# Altium footprint library Chips.PcbLib: 57 footprints (part 3 of 4)
Each footprint in its own frame and in the unit in brackets; x right, y up, seen from the top. Pads: shape width x height; smd on the part's side, far side on the other; paste and mask are expansions set on the pad; w line width, h text height; cw(c..) or ccw(c..) is an arc to the next point about the centre after c.
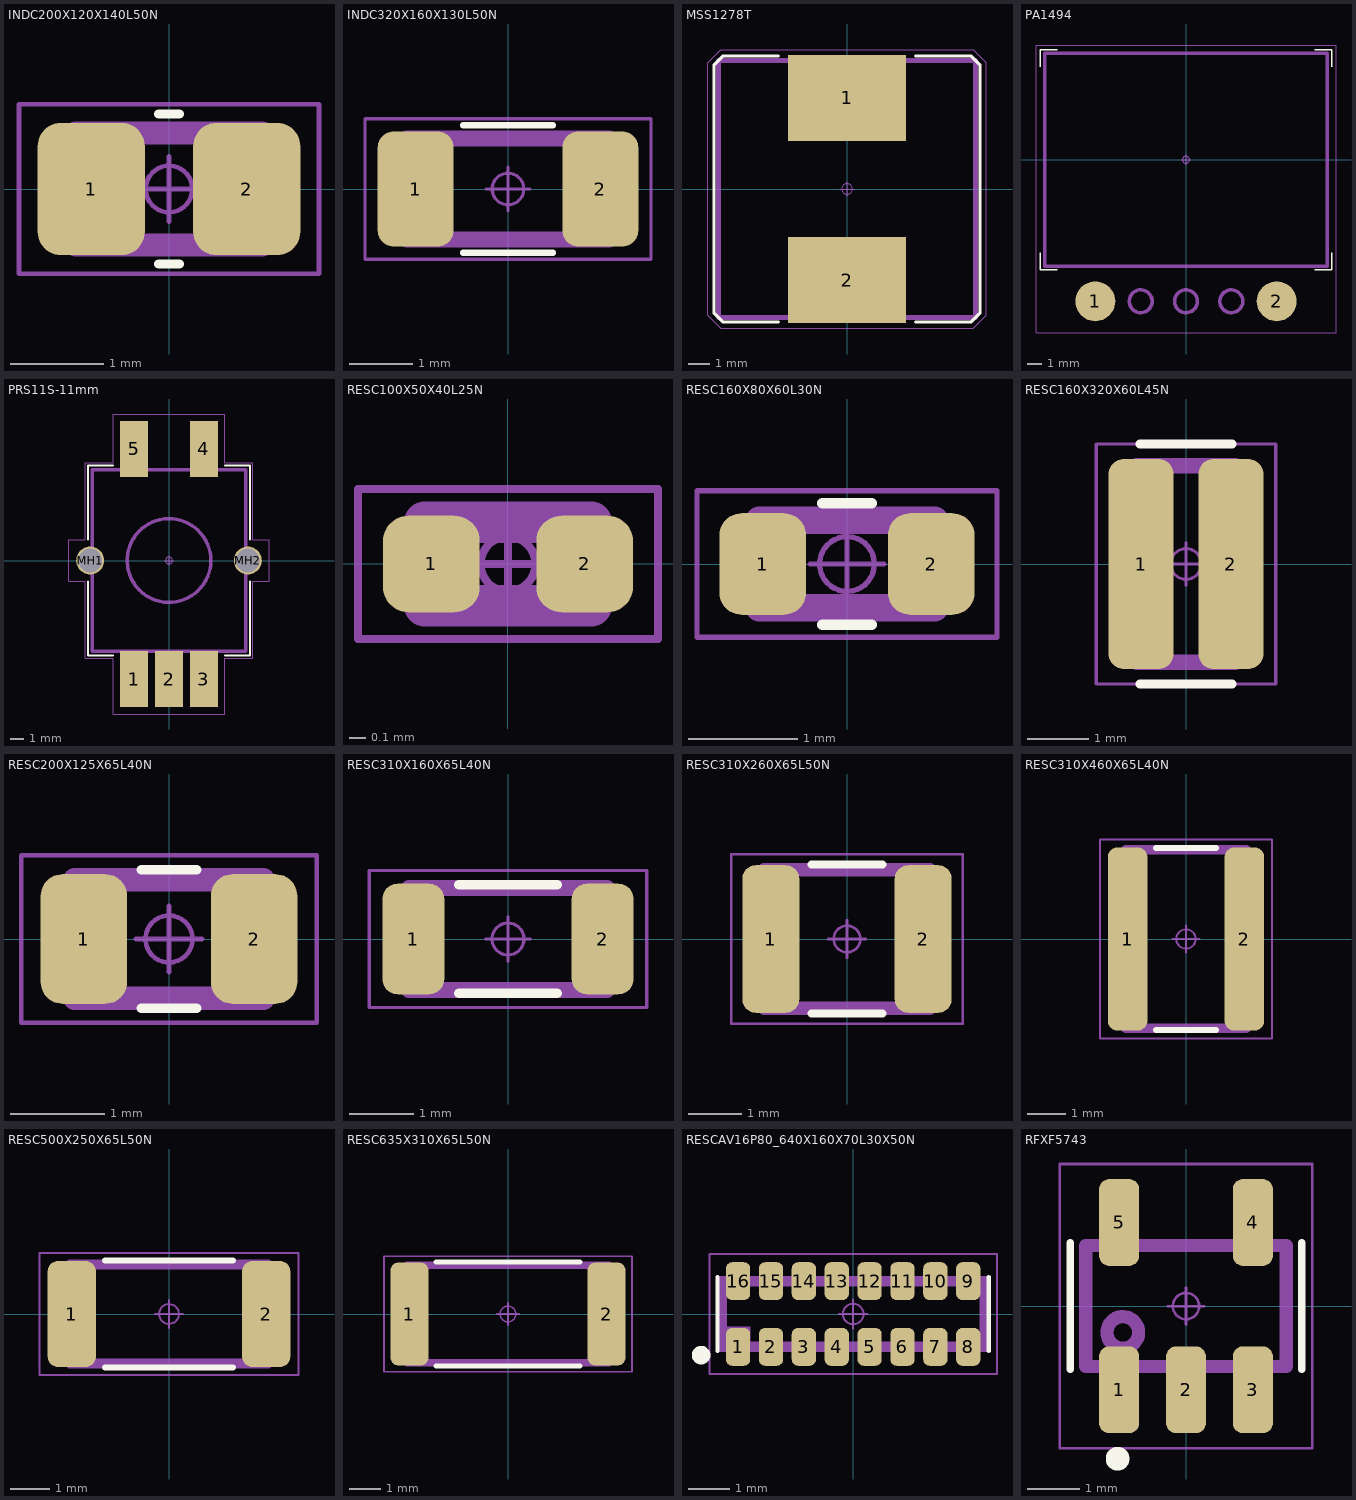
[diagram p2: the footprints below, top view; thin cyan lines are the x and y axes]

## INDC200X120X140L50N [mm] "Inductor, Chip; 2.00 mm L X 1.20 mm W X 1.40 mm H body"
height 1.4
pads (2):
  rrect43% 1.15x1.42 smd: 1(-0.835,0) 2(0.835,0)
Top Overlay:
  lines w0.1: -0.11,-0.805 0.11,-0.805 ; -0.11,0.805 0.11,0.805
Top Assembly:
  lines w0.25: -1,-0.6 -1,0.6 1,0.6 1,-0.6 -1,-0.6
  text ".Designator" at -1.8,1.1 h1.5
Top Courtyard:
  circle w0.05: c0,0 r0.25
  lines w0.05: -0.35,0 0.35,0 ; 0,-0.35 0,0.35 ; -1.61,-0.91 -1.61,0.91 1.61,0.91 1.61,-0.91 -1.61,-0.91
3D body "INDC200X120X140L50.STEP": height 1.4, standoff 0, extent -1,-0.6 1,0.6

## INDC320X160X130L50N [mm] "Inductor, Chip; 3.20 mm L X 1.60 mm W X 1.30 mm H body"
height 1.3
pads (2):
  rrect42% 1.2x1.82 smd: 1(-1.46,0) 2(1.46,0)
Top Overlay:
  lines w0.1: -0.71,-1.005 0.71,-1.005 ; -0.71,1.005 0.71,1.005
Top Assembly:
  lines w0.25: -1.6,-0.8 1.6,-0.8 1.6,0.8 -1.6,0.8 -1.6,-0.8
  text ".Designator" at -1.2,-0.4 h1.5
Top Courtyard:
  circle w0.05: c0,0 r0.25
  lines w0.05: -0.35,0 0.35,0 ; 0,-0.35 0,0.35 ; -2.26,-1.11 2.26,-1.11 2.26,1.11 -2.26,1.11 -2.26,-1.11
3D body "INDC320X160X130L50.STEP": height 1.3, standoff 0, extent -1.6,-0.8 1.6,0.8

## MSS1278T [mm] "Coilcraft MSS1278T Series"
height 7.8
pads (2):
  rect 5.5x4 smd: 1(0,4.25) 2(0,-4.25)
Top Overlay:
  lines w0.15: -3.2,-6.2 -5.8,-6.2 -6.2,-5.8 -6.2,5.8 -5.8,6.2 -3.2,6.2 ; 3.2,-6.2 5.8,-6.2 6.2,-5.8 6.2,5.8 5.8,6.2 3.2,6.2
Top Assembly:
  lines w0.25: -6,-6 6,-6 6,6 -6,6 -6,-6
  text ".Designator" at -3.3,-0.3 h1.5
Top Courtyard:
  circle w0.05: c0,0 r0.25
  lines w0.05: -0.35,0 0.35,0 ; 0,-0.35 0,0.35 ; -6.5,-5.9 -6.5,5.9 -5.9,6.5 5.9,6.5 6.5,5.9 6.5,-5.9 5.9,-6.5 -5.9,-6.5 -6.5,-5.9
3D body "MSS1278T.SLDPRT": height 7.8, standoff 0, extent -6,-6 6,6

## PA1494 [mm] "Pulse Planar inductor"
height 7.4
pads (2):
  round 2.8 smd: 1(-6.35,-9.91) 2(6.35,-9.91)
Top Overlay:
  lines w0.1: -10.2,-6.5 -10.2,-7.7 -9,-7.7 ; -10.2,6.5 -10.2,7.7 -9,7.7 ; 9,-7.7 10.2,-7.7 10.2,-6.5 ; 9,7.7 10.2,7.7 10.2,6.5
Top Assembly:
  circle w0.25: c6.35,-9.91 r0.8
  circle w0.25: c3.17,-9.91 r0.8
  circle w0.25: c0,-9.91 r0.8
  circle w0.25: c-3.17,-9.91 r0.8
  circle w0.25: c-6.35,-9.91 r0.8
  lines w0.25: -9.9,-7.45 9.9,-7.45 9.9,7.45 -9.9,7.45 -9.9,-7.45
  text ".Designator" at -2.8,-0.3 h1.5
Top Courtyard:
  circle w0.05: c0,0 r0.25
  lines w0.05: -0.35,0 0.35,0 ; 0,-0.35 0,0.35 ; -10.5,-12.1 -10.5,8 10.5,8 10.5,-12.1 -10.5,-12.1
3D body "PA1494.STEP": height 7.37, standoff 0, extent -9.905,-12.09 9.905,7.47

## PRS11S-11mm [mm] "Bourns 11 mm SMD Potentiometer with Mounting Holes"
height 20
pads (7):
  rect 2x4 smd: 1(-2.5,-8.5) 2(0,-8.5) 3(2.5,-8.5) 4(2.5,8) 5(-2.5,8)
  round 2 hole 1.7: MH1(-5.65,0) MH2(5.65,0)
Top Overlay:
  lines w0.15: -5.8,-1.5 -5.8,-6.8 -4,-6.8 ; -5.8,1.5 -5.8,6.8 -4,6.8 ; 4,-6.8 5.8,-6.8 5.8,-1.5 ; 4,6.8 5.8,6.8 5.8,1.5
Top Assembly:
  circle w0.25: c0,0 r3
  lines w0.25: -5.5,-6.5 -5.5,6.5 5.5,6.5 5.5,-6.5 -5.5,-6.5
  text ".Designator" at -2.4,-0.6 h1.5
Top Courtyard:
  circle w0.05: c0,0 r0.25
  lines w0.05: -0.35,0 0.35,0 ; 0,-0.35 0,0.35 ; -7.2,-1.5 -7.2,1.5 -6,1.5 -6,7 -4,7 -4,10.5 4,10.5 4,7 6,7 6,1.5 7.2,1.5 7.2,-1.5 6,-1.5 6,-7 4,-7 4,-11 -4,-11 -4,-7 -6,-7 -6,-1.5 -7.2,-1.5
3D body "PRS11S-11mm.STEP": height 20, standoff -1.4, extent -5.85,-9.5 5.85,9

## RESC100X50X40L25N [mm] "Resistor, Chip; 1.00 mm L X 0.50 mm W X 0.40 mm H body"
height 0.4
pads (2):
  rrect52% 0.58x0.58 smd: 1(-0.46,0) 2(0.46,0)
Top Assembly:
  lines w0.25: -0.5,-0.25 0.5,-0.25 0.5,0.25 -0.5,0.25 -0.5,-0.25
  text ".Designator" at -2.2,0.8 h1.5
Top Courtyard:
  circle w0.05: c0,0 r0.165
  lines w0.05: -0.22,0 0.22,0 ; 0,-0.22 0,0.22 ; -0.9,-0.45 0.9,-0.45 0.9,0.45 -0.9,0.45 -0.9,-0.45
3D body "RESC100X50X40L25.STEP": height 0.4, standoff 0, extent -0.5,-0.25 0.5,0.25

## RESC160X80X60L30N [mm] "Resistor, Chip; 1.60 mm L X 0.80 mm W X 0.60 mm H body"
height 0.6
pads (2):
  rrect51% 0.79x0.93 smd: 1(-0.77,0) 2(0.77,0)
Top Overlay:
  lines w0.1: -0.225,-0.555 0.225,-0.555 ; -0.225,0.555 0.225,0.555
Top Assembly:
  lines w0.25: -0.8,-0.4 -0.8,0.4 0.8,0.4 0.8,-0.4 -0.8,-0.4
  text ".Designator" at -2.1,0.9 h1.5
Top Courtyard:
  circle w0.05: c0,0 r0.25
  lines w0.05: -0.335,0 0.335,0 ; 0,-0.335 0,0.335 ; -1.37,-0.67 -1.37,0.67 1.37,0.67 1.37,-0.67 -1.37,-0.67
3D body "RESC160X80X60L30.STEP": height 0.6, standoff 0, extent -0.8,-0.4 0.8,0.4

## RESC160X320X60L45N [mm] "Resistor, Chip; 1.60 mm L X 3.20 mm W X 0.60 mm H body"
height 0.6
pads (2):
  rrect47% 1.06x3.42 smd: 1(-0.73,0) 2(0.73,0)
Top Overlay:
  lines w0.15: -0.75,-1.95 0.75,-1.95 ; -0.75,1.95 0.75,1.95
Top Assembly:
  lines w0.25: -0.8,-1.6 0.8,-1.6 0.8,1.6 -0.8,1.6 -0.8,-1.6
  text ".Designator" at 0.525,-1.4 h1.5
Top Courtyard:
  circle w0.05: c0,0 r0.25
  lines w0.05: -0.35,0 0.35,0 ; 0,-0.35 0,0.35 ; -1.46,-1.95 1.46,-1.95 1.46,1.95 -1.46,1.95 -1.46,-1.95
3D body "RESC160X320X60L45.STEP": height 0.6, standoff 0, extent -0.8,-1.6 0.8,1.6

## RESC200X125X65L40N [mm] "Resistor, Chip; 2.00 mm L X 1.25 mm W X 0.65 mm H body"
height 0.65
pads (2):
  rrect50% 0.92x1.38 smd: 1(-0.905,0) 2(0.905,0)
Top Overlay:
  lines w0.1: -0.295,-0.735 0.295,-0.735 ; -0.295,0.735 0.295,0.735
Top Assembly:
  lines w0.25: -1,-0.63 1,-0.63 1,0.63 -1,0.63 -1,-0.63
  text ".Designator" at -2,1.2 h1.5
Top Courtyard:
  circle w0.05: c0,0 r0.25
  lines w0.05: -0.35,0 0.35,0 ; 0,-0.35 0,0.35 ; -1.57,-0.89 1.57,-0.89 1.57,0.89 -1.57,0.89 -1.57,-0.89
3D body "RESC200X125X65L40.STEP": height 0.65, standoff 0, extent -1,-0.625 1,0.625

## RESC310X160X65L40N [mm] "Resistor, Chip; 3.10 mm L X 1.60 mm W X 0.65 mm H body"
height 0.65
pads (2):
  rrect49% 0.97x1.73 smd: 1(-1.48,0) 2(1.48,0)
Top Overlay:
  lines w0.15: -0.77,-0.85 0.77,-0.85 ; -0.77,0.85 0.77,0.85
Top Assembly:
  lines w0.25: -1.55,-0.8 1.55,-0.8 1.55,0.8 -1.55,0.8 -1.55,-0.8
  text ".Designator" at -1.3,-0.4 h1.5
Top Courtyard:
  circle w0.05: c0,0 r0.25
  lines w0.05: -0.35,0 0.35,0 ; 0,-0.35 0,0.35 ; -2.17,-1.07 2.17,-1.07 2.17,1.07 -2.17,1.07 -2.17,-1.07
3D body "RESC310X160X65L40.STEP": height 0.65, standoff 0, extent -1.55,-0.8 1.55,0.8

## RESC310X260X65L50N [mm] "Resistor, Chip; 3.10 mm L X 2.60 mm W X 0.65 mm H body"
height 0.65
pads (2):
  rrect47% 1.07x2.77 smd: 1(-1.43,0) 2(1.43,0)
Top Overlay:
  lines w0.15: -0.67,-1.4 0.67,-1.4 ; -0.67,1.4 0.67,1.4
Top Assembly:
  lines w0.25: -1.55,-1.3 1.55,-1.3 1.55,1.3 -1.55,1.3 -1.55,-1.3
  text ".Designator" at -1.1,-0.4 h1.5
Top Courtyard:
  circle w0.05: c0,0 r0.25
  lines w0.05: -0.35,0 0.35,0 ; 0,-0.35 0,0.35 ; -2.17,-1.59 2.17,-1.59 2.17,1.59 -2.17,1.59 -2.17,-1.59
3D body "RESC310X260X65L50.STEP": height 0.65, standoff 0, extent -1.55,-1.3 1.55,1.3

## RESC310X460X65L40N [mm] "Resistor, Chip; 3.10 mm L X 4.60 mm W X 0.65 mm H body"
height 0.65
pads (2):
  rrect49% 1.02x4.73 smd: 1(-1.505,0) 2(1.505,0)
Top Overlay:
  lines w0.15: -0.77,-2.35 0.77,-2.35 ; -0.77,2.35 0.77,2.35
Top Assembly:
  lines w0.25: -1.55,-2.3 1.55,-2.3 1.55,2.3 -1.55,2.3 -1.55,-2.3
  text ".Designator" at -1.3,-0.3 h1.5
Top Courtyard:
  circle w0.05: c0,0 r0.25
  lines w0.05: -0.35,0 0.35,0 ; 0,-0.35 0,0.35 ; -2.22,-2.57 2.22,-2.57 2.22,2.57 -2.22,2.57 -2.22,-2.57
3D body "RESC310X460X65L40.STEP": height 0.65, standoff 0, extent -1.55,-2.3 1.55,2.3

## RESC500X250X65L50N [mm] "Resistor, Chip; 5.00 mm L X 2.50 mm W X 0.65 mm H body"
height 0.65
pads (2):
  rrect41% 1.22x2.67 smd: 1(-2.455,0) 2(2.455,0)
Top Overlay:
  lines w0.15: -1.62,-1.35 1.62,-1.35 ; -1.62,1.35 1.62,1.35
Top Assembly:
  lines w0.25: -2.5,-1.25 -2.5,1.25 2.5,1.25 2.5,-1.25 -2.5,-1.25
  text ".Designator" at -2.2,-0.3 h1.5
Top Courtyard:
  circle w0.05: c0,0 r0.25
  lines w0.05: -0.35,0 0.35,0 ; 0,-0.35 0,0.35 ; -3.27,-1.54 -3.27,1.54 3.27,1.54 3.27,-1.54 -3.27,-1.54
3D body "RESC500X250X65L50.STEP": height 0.65, standoff 0, extent -2.5,-1.25 2.5,1.25

## RESC635X310X65L50N [mm] "Resistor, Chip; 6.35 mm L X 3.10 mm W X 0.65 mm H body"
height 0.65
pads (2):
  rrect41% 1.22x3.27 smd: 1(-3.13,0) 2(3.13,0)
Top Overlay:
  lines w0.15: -2.295,-1.65 2.295,-1.65 ; -2.295,1.65 2.295,1.65
Top Assembly:
  lines w0.25: -3.2,-1.55 3.2,-1.55 3.2,1.55 -3.2,1.55 -3.2,-1.55
  text ".Designator" at -2.4,-0.3 h1.5
Top Courtyard:
  circle w0.05: c0,0 r0.25
  lines w0.05: -0.35,0 0.35,0 ; 0,-0.35 0,0.35 ; -3.94,-1.84 3.94,-1.84 3.94,1.84 -3.94,1.84 -3.94,-1.84
3D body "RESC635X310X65L50.STEP": height 0.65, standoff 0, extent -3.175,-1.55 3.175,1.55

## RESCAV16P80_640X160X70L30X50N [mm] "Chip Array, 2 Side Concave, 0.80 mm pitch; 16 pin, 6.40 mm L X 1.60 mm W X 0.70 mm H body"
height 0.7
pads (16):
  rrect51% 0.59x0.92 smd: 1(-2.8,-0.8) 2(-2,-0.8) 3(-1.2,-0.8) 4(-0.4,-0.8) 5(0.4,-0.8) 6(1.2,-0.8) 7(2,-0.8) 8(2.8,-0.8) 9(2.8,0.8) 10(2,0.8) 11(1.2,0.8) 12(0.4,0.8) 13(-0.4,0.8) 14(-1.2,0.8) 15(-2,0.8) 16(-2.8,0.8)
Top Overlay:
  circle w0.25: c-3.7,-1 r0.1
  lines w0.1: -3.3,-0.9 -3.3,0.9 ; 3.3,-0.9 3.3,0.9
Top Assembly:
  rectangle: -3.2,-0.8 -2.5,-0.3
  lines w0.25: -3.2,-0.8 -3.2,0.8 3.2,0.8 3.2,-0.8 -3.2,-0.8
  text ".Designator" at -2.2,-0.4 h1.5
Top Courtyard:
  circle w0.05: c0,0 r0.25
  lines w0.05: -0.35,0 0.35,0 ; 0,-0.35 0,0.35 ; -3.5,-1.46 -3.5,1.46 3.5,1.46 3.5,-1.46 -3.5,-1.46
3D body "RESCAV16P80_640X160X70L30X50.STEP": height 0.7, standoff 0, extent -3.2,-0.85 3.2,0.85

## RFXF5743 [mm] "Mini RF RFXF5743 Case S20"
height 2.79
pads (5):
  rrect50% 0.76x1.65 smd: 1(-1.27,-1.59) 2(0,-1.59) 3(1.27,-1.59) 4(1.27,1.59) 5(-1.27,1.59)
Top Overlay:
  circle w0.25: c-1.3,-2.9 r0.1
  lines w0.15: -2.2,-1.2 -2.2,1.2 ; 2.2,-1.2 2.2,1.2
Top Assembly:
  circle w0.25: c-1.2,-0.5 r0.3
  lines w0.25: -1.905,-1.15 1.905,-1.15 1.905,1.15 -1.905,1.15 -1.905,-1.15
  text ".Designator" at -0.6,-0.4 h1.5
Top Courtyard:
  circle w0.05: c0,0 r0.25
  lines w0.05: -0.35,0 0.35,0 ; 0,-0.35 0,0.35 ; -2.4,-2.7 2.4,-2.7 2.4,2.7 -2.4,2.7 -2.4,-2.7
3D body "CASE S20.SLDPRT": height 2.79, standoff 0, extent -1.905,-1.905 1.905,1.905